# Altium schematic symbol library Schlib1.SchLib: 12 symbols
Pins are listed as number, name and electrical type; pins without a type are passive.

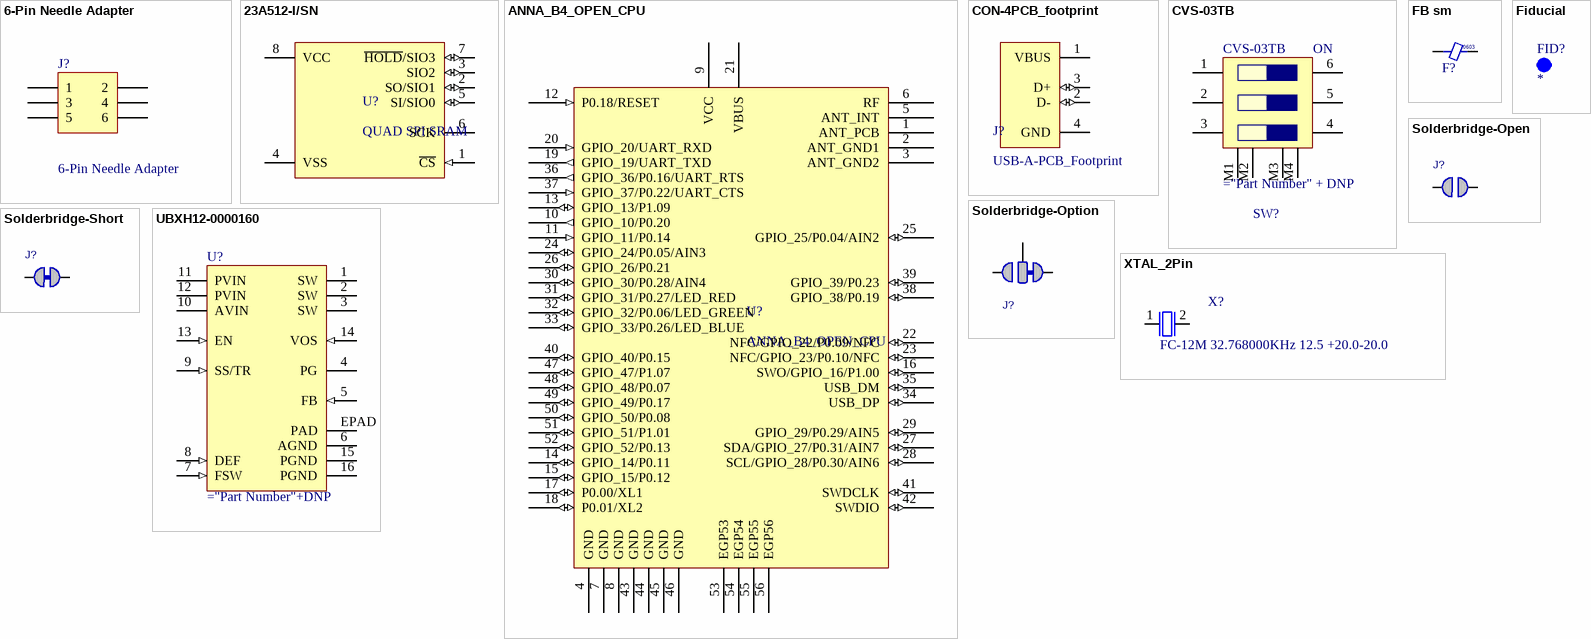
[diagram p0: symbols 6-Pin Needle Adapter to XTAL_2Pin]

## 6-Pin Needle Adapter
designator J?  (no BOM)
CBL PLUG-OF-NAILS 6-PIN; Manufacturer: Segger; Artikkelnr Noca: N.A.; Part Number: 6-Pin Needle Adapter; Manufacturer Part Number: 6-Pin Needle Adapter; Value: 6-Pin Needle Adapter; Pin Count: 6; Footprint Doc: TC2050-IDC-NLFP; ComponentLink1Description: Datasheet; ComponentLink1URL: *; ComponentLink2Description: Supplier link; ComponentLink2URL: *; HelpURL: N.A.; Part number IPS: N.A.; Supplier 2: *; Supplier Part Number 2: *
footprint TC2050-IDC-NLFP
pins: 1, 2, 3, 4, 5, 6

## 23A512-I/SN
designator U?, comment QUAD SPI SRAM
IC SRAM 512KBIT SPI/QUAD 8SOIC; Manufacturer: Microchip Technology; Manufacturer Part Number: 23A512-I/SN; Memory Size: 512kb; Memory Interface: Qaud SPI; Technology: SRAM; Package / Case: 8-SOIC (0.154", 3.90mm Width); Supplier 1: Digi-Key; Supplier Part Number 1: 23A512-I/SN-ND
footprint SOIC127P599X173-8N
pins: 1 ~{CS} (in), 2 SO/SIO1 (io), 3 SIO2 (io), 4 VSS (power), 5 SI/SIO0 (io), 6 SCK, 7 ~{HOLD}/SIO3 (io), 8 VCC (power)

## ANNA_B4_OPEN_CPU
designator U?
Stand-alone Bluethoth Low energy module
footprint SUBLOX_ANNA_LGA56_650X650_MOD
pins: 1 ANT_PCB, 2 ANT_GND1, 3 ANT_GND2, 4 GND, 5 ANT_INT, 6 RF, 7 GND, 8 GND, 9 VCC, 10 GPIO_10/P0.20 (out), 11 GPIO_11/P0.14 (in), 12 P0.18/RESET (in), 13 GPIO_13/P1.09 (io), 14 GPIO_14/P0.11 (io), 15 GPIO_15/P0.12 (io), 16 SWO/GPIO_16/P1.00 (io), 17 P0.00/XL1 (io), 18 P0.01/XL2 (io), 19 GPIO_19/UART_TXD (out), 20 GPIO_20/UART_RXD (in), 21 VBUS, 22 NFC/GPIO_22/P0.09/NFC (io), 23 NFC/GPIO_23/P0.10/NFC (io), 24 GPIO_24/P0.05/AIN3 (io), 25 GPIO_25/P0.04/AIN2 (io), 26 GPIO_26/P0.21 (io), 27 SDA/GPIO_27/P0.31/AIN7 (io), 28 SCL/GPIO_28/P0.30/AIN6 (io), 29 GPIO_29/P0.29/AIN5 (io), 30 GPIO_30/P0.28/AIN4 (io), 31 GPIO_31/P0.27/LED_RED (io), 32 GPIO_32/P0.06/LED_GREEN (io), 33 GPIO_33/P0.26/LED_BLUE (io), 34 USB_DP (io), 35 USB_DM (io), 36 GPIO_36/P0.16/UART_RTS (out), 37 GPIO_37/P0.22/UART_CTS (in), 38 GPIO_38/P0.19 (io), 39 GPIO_39/P0.23 (io), 40 GPIO_40/P0.15 (io), 41 SWDCLK (io), 42 SWDIO (io), 43 GND, 44 GND, 45 GND, 46 GND, 47 GPIO_47/P1.07 (io), 48 GPIO_48/P0.07 (io), 49 GPIO_49/P0.17 (io), 50 GPIO_50/P0.08 (io), 51 GPIO_51/P1.01 (io), 52 GPIO_52/P0.13 (io), 53 EGP53, 54 EGP54, 55 EGP55, 56 EGP56

## CON-4PCB_footprint
designator J?, comment USB-A-PCB_Footprint
PCB_Footprint
footprint USB-A-PCB
footprint MOLEX_48037-0001
pins: 1 VBUS (power), 2 D- (io), 3 D+ (io), 4 GND (power)

## CVS-03TB
designator SW?  Manufacturer Part Number 1: CVS-03TB
Dip Switch SPST 3 Position Surface Mount Slide (Standard) Actuator 100mA 6VDC; Part Number: UBXH19-0000036; Manufacturer 1: Nidec Components Corporation; Item_Phase: Active; Component Mounting Type: SMT; Switch/Button Function: On-Off; Use in new designs: Yes; Voltage: 6V; Item Phase: Unreleased; UBX Code: None; Part Name: CVS-03TB; Part_Type: Switch; Revision: A; Supplier 1: Digi-Key; Supplier Part Number 1: 563-1194-1-ND; Arena Link: https://app.bom.com/a/4M5DJQ9Q9SR7OCE3?v=spec.summary; Current: 100mA; Height: 1.45mm; Length: 6.1mm; Pins: 6; Switch/Button Circuit: SPST; Width: 6.2mm; Max Operating Temp: 85; Min Operating Temp: -40; Manufacturer 2: None; Manufacturer Part Number 2: None; Supplier 2: None; Supplier Part Number 2: None
footprint CVS-03
pins: 1, 2, 3, 4, 5, 6, M1, M2, M3, M4
text: ON

## FB sm
designator F?  Size: 0603
FERRITE BEAD MURATA BLM18KG 0603 330R@100MHz; Manufacturer: Murata Electronics; Manufacturer P/N: BLM18KG331BH1D; Env: ROHS; Permitted Use: Volume Products; Perferred: PREF; Mfg P/N Status: Active; Mfg P/N Split: 100; Mfg P/N Released: Yes; Value: 330R@100MHz; Part Type: Ferrite; RefDes: FB
footprint IND 0603 HD (Chip Inductor 0603, 2-Leads, Body 1.60x0.80mm, IPC High Density)
pins: 1, 2

## Fiducial
designator FID?
footprint FiducialPCB

## Solderbridge-Open
designator J?, comment Solderbridge-OpenDNP  (value not drawn)  (no BOM)
Solderbridge-Open; Added By: Paul B; Part Number: Solderbridge-Open; Height: 0; DNP: DNP; Added Date: 12/2/2015
footprint Solderbridge-Open
pins: 1, 2

## Solderbridge-Option
designator J?, comment Solderbridge-OptionDNP  (value not drawn)  (net tie, no BOM)
Solderbridge-Option; Added By: Paul B; Part Number: Solderbridge-Option; Height: 0; DNP: DNP; Added Date: 12/3/2015
footprint Solderbridge-Option
pins: 1, 2, 3

## Solderbridge-Short
designator J?, comment Solderbridge-ShortDNP  (value not drawn)  (net tie, no BOM)
Solderbridge-Short; Added By: Paul B; Part Number: Solderbridge-Short; Height: 0; DNP: DNP; Added Date: 12/2/2015
footprint Solderbridge-Short
pins: 1, 2

## UBXH12-0000160
designator U?
STEP DOWN DC-DC CONVERTER 3-17V 3A TPS62132 3V3; Manufacturer: Texas Instruments; PartNumber: TPS62132RGTR; Manufacturer P/N: TPS62132RGTT; Part Number: UBXH12-0000160; Switch Current Limit(Typ)(A): 4.2; Vout(Max)(V): 3.3; Iout(Max)(A): 3; Regulated Outputs(#): 1; Rating: Catalog; Vin(Max)(V): 17; Synchronous Rectification: TRUE; SubFamily: Step-Down Regulator; Eco-Plan: Green (RoHS & no Sb/Br); Duty Cycle(Max)(%): 100; Iq(Typ)(mA): 0.017; Topology: Buck; Editor: andre.pick; Released by: alvaro.nussbaum; Env: GREEN; Permitted Use: Support Products; Perferred: PREF; Mfg P/N Status: Active; Mfg P/N Released: Yes; DatasheetVersion: SLVSAG7; ComponentLink3Description: URL Link1; ComponentLink1Description: Datasheet; Vin(Min)(V): 3; PackageDescription: 16-Pin Plastic Quad Flat No-Lead, 3 x 3 mm Body, 0.5 mm Pitch, 1.7 x 1.7 mm Exposed Pad; Mounting Technology: Surface Mount; Preset Vout(V): 3.3; Code_JEDEC: MO-220; ComponentLink1URL: http://www.ti.com/general/docs/lit/getliterature.tsp?genericPartNumber=TPS62132&fileType=pdf; Vout(Min)(V): 3.3; ComponentLink2URL: http://www.ti.com/litv/pdf/mpqf119g; ComponentLink2Description: Package Specification; PackageReference: RGT0016C; PackageVersion: revH, Oct-2011; ComponentLink3URL: Samples URL:http://www.ti.com/product/tps62132#samples; Value: 3V3; Min Operating Temp: -40°C; Max Operating Temp: 85°C; Part Type: Regulator; Release Data: 2021-03-11T12:33:47; UBX Wiki: https://wiki.u-blox.com/bin/view/Operations/PartDetails?index=22570; RefDes: U; Mfg P/N Split: 100; Mfg P/N Datasheet: https://wiki.u-blox.com/bin/view/Generic/Docs/DocumentSummary?index=19244; Manufacturer Part Number: TPS62132RGTR
footprint QFN0.5P3x3-16Pin_W-Pad (Quad Flat No-Lead, 0.5mm Pitch, 16 Contact, Exposed Pad, 3mmX3mm)
pins: 1 SW (power) "Switch node, which is connected to the internal MOSFET switches. Connect inductor between SW and output capacitor.", 2 SW (power) "Switch node, which is connected to the internal MOSFET switches. Connect inductor between SW and output capacitor.", 3 SW (power) "Switch node, which is connected to the internal MOSFET switches. Connect inductor between SW and output capacitor.", 4 PG (hiz) "Output power good (High = VOUT ready, Low = VOUT below nominal regulation) ; open drain (requires pull-up resistor; goes high impedance, when device is switched off)", 5 FB (in) "Voltage feedback of adjustable version. Connect resistive voltage divider to this pin. It is recommended to connect FB to AGND on fixed output voltage versions for improved thermal performance.", 6 AGND (power) "Analog Ground", 7 FSW (in) "Switching Frequency Select (Low ˜ 2.5MHz, High ˜ 1.25MHz for typical operation)(2)", 8 DEF (in) "Output Voltage Scaling (Low = nominal, High = nominal + 5%)(2)", 9 SS/TR (in) "Soft-Start / Tracking Pin. An external capacitor connected to this pin sets the internal voltage reference rise time. It can be used for tracking and sequencing.", 10 AVIN (power) "Supply voltage for control circuitry. Connect to same source as PVIN.", 11 PVIN (power) "Supply voltage for power stage. Connect to same source as AVIN.", 12 PVIN (power) "Supply voltage for power stage. Connect to same source as AVIN.", 13 EN (in) "Enable input (High = enabled, Low = disabled)(2)", 14 VOS (in) "Output voltage sense pin and connection for the control loop circuitry.", 15 PGND (power) "Power ground", 16 PGND (power) "Power ground", EPAD PAD (power) "Must be connected to AGND. Must be soldered to achieve appropriate power dissipation and mechanical reliability."

## XTAL_2Pin
designator X?  Manufacturer P/N: FC-12M 32.768000KHz 12.5 +20.0-20.0
XTAL 3215 Generic
footprint SNDK_NX3215SA
pins: 1, 2